# Altium footprint library Diode.PcbLib: 7 footprints
Each footprint in its own frame and in the unit in brackets; x right, y up, seen from the top. Pads: shape width x height; smd on the part's side, far side on the other; paste and mask are expansions set on the pad; w line width, h text height; cw(c..) or ccw(c..) is an arc to the next point about the centre after c.
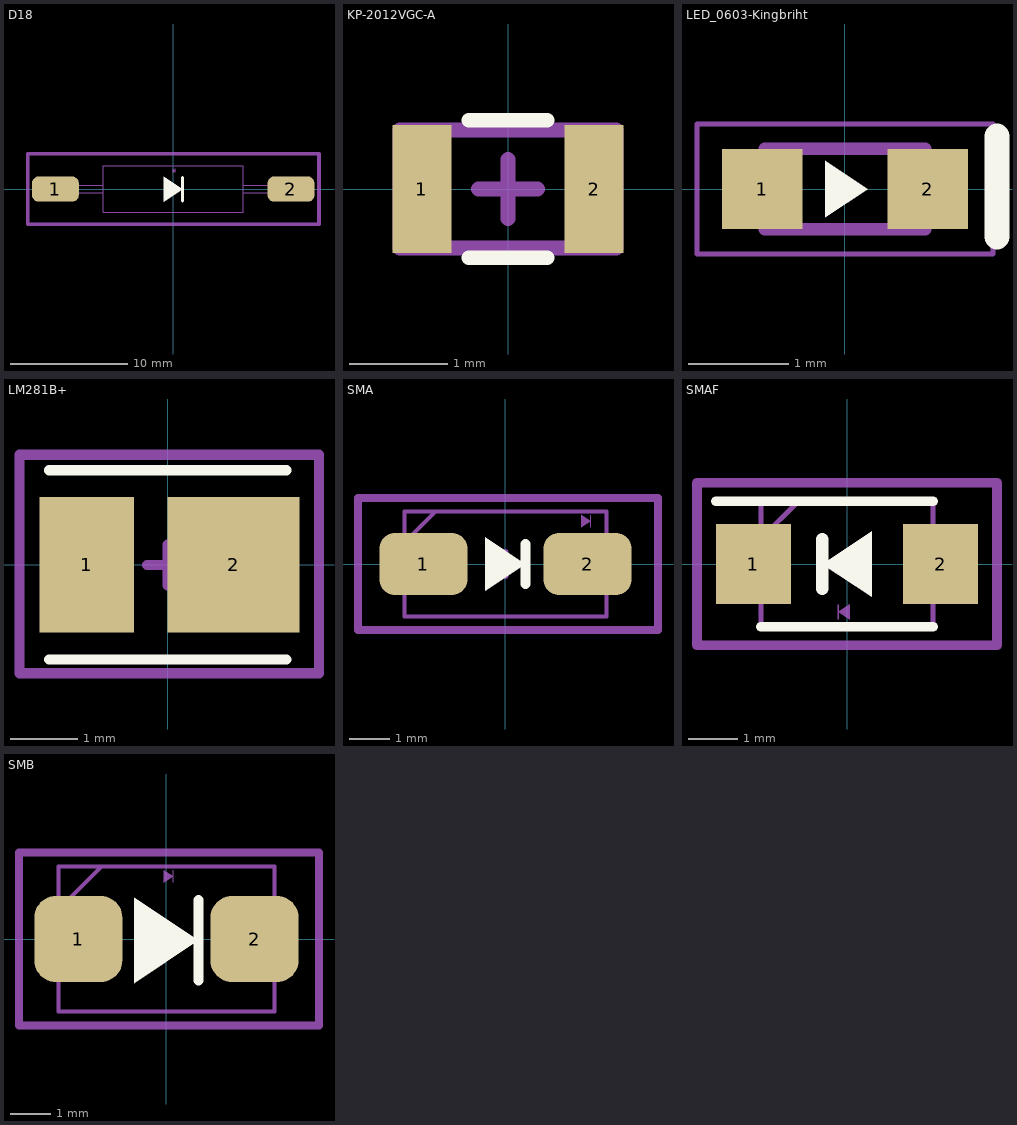
[diagram p0: the footprints below, top view; thin cyan lines are the x and y axes]

## D18 [mm]
pads (2):
  rrect50% 4x2.15 smd: 1(-10.087,-0.007) 2(10.072,-0.007)
Top Overlay:
  region: -0.8,1.033 -0.8,-1.1 0.8,-0.033
  lines w0.254: 0.8,-1.033 0.8,0.967
Top Assembly:
  drawing of 4850 lines, arcs and shapes, not listed
Top Component Outline:
  lines w0.3: -12.446,-3 12.471,-3 12.471,3 -12.446,3 -12.446,-3
3D body "Ä18.stp": height 5.3, standoff 0, extent -10.087,-2.004 10.072,1.99

## KP-2012VGC-A [mm] "D"
pads (2):
  rect 0.6x1.3 smd: 1(-0.875,0) 2(0.875,0)
Top Overlay:
  lines w0.15: -0.4,-0.7 0.4,-0.7 ; -0.4,0.7 0.4,0.7
Top Assembly:
  region: 0.9,0.507 0.9,0.418 0.967,0.462
  lines w0.01: 0.967,0.42 0.967,0.505
Top Component Outline:
  lines w0.15: -0.3,0 0.3,0 ; 0,-0.3 0,0.3 ; -1.1,-0.6 1.1,-0.6 1.1,0.6 -1.1,0.6 -1.1,-0.6
3D body "LEDM2012X110N_EIA-0805_Kingbright_KP-2012_series.STEP": height 1.1, standoff 0, extent -1,-0.625 1,0.625

## LED_0603-Kingbriht [mm]
height 1.1
pads (2):
  rect 0.8x0.8 smd: 1(-0.825,0) 2(0.825,0)
Top Overlay:
  region: -0.195,0.283 -0.195,-0.283 0.229,0
  lines w0.254: 1.516,-0.475 1.516,0.525
Top Assembly:
  region: 0.649,0.317 0.649,0.228 0.715,0.272
  lines w0.01: 0.715,0.23 0.715,0.315
  lines w0.127: -0.8,-0.4 -0.8,0.4 0.8,0.4 0.8,-0.4 -0.8,-0.4
Top Component Outline:
  lines w0.05: -1.475,-0.65 1.475,-0.65 1.475,0.65 -1.475,0.65 -1.475,-0.65
3D body "step_temp.STEP": height 1.1, standoff 0, extent -0.8,-0.4 0.8,0.4

## LM281B+ [mm]
pads (2):
  rect 1.4x2 smd: 1(-1.194,0)
  rect 1.95x2 smd: 2(0.975,0)
Top Overlay:
  lines w0.15: -1.753,-1.397 1.753,-1.397 ; -1.753,1.397 1.753,1.397
Top Component Outline:
  lines w0.15: -0.3,0 0.3,0 ; 0,-0.3 0,0.3 ; -2.184,-1.6 -2.184,1.626 2.235,1.626 2.235,-1.6 -2.184,-1.6
3D body "SPMWH1228FD5WAT0SC.STEP": height 0.7, standoff 0, extent -1.74,-1.4 1.74,1.4

## SMA [mm]
pads (2):
  rrect50% 2.2x1.55 smd: 1(-2.05,0) 2(2.05,0)
Top Overlay:
  region: -0.5,0.667 -0.5,-0.667 0.5,0
  lines w0.254: 0.5,-0.5 0.5,0.5
Top Assembly:
  region: 1.89,1.227 1.89,0.912 2.126,1.07
  lines w0.03: 2.126,0.92 2.126,1.217
  lines w0.1: -2.52,0.538 -1.745,1.312 ; -2.52,-1.312 2.52,-1.312 2.52,1.312 -2.52,1.312 -2.52,-1.312
Top Component Outline:
  lines w0.15: -0.3,0 0.3,0 ; 0,-0.3 0,0.3
  lines w0.2: -3.683,-1.651 3.81,-1.651 3.81,1.651 -3.683,1.651 -3.683,-1.651
3D body "SMA-2.65-DIODE.stp": height 2.67, standoff 0, extent -2.79,-1.312 2.79,1.312

## SMAF [mm]
pads (2):
  rect 1.53x1.63 smd: 1(-1.9,0) 2(1.9,0)
Top Overlay:
  region: 0.5,-0.667 0.5,0.667 -0.5,0
  lines w0.2: -2.665,1.275 1.75,1.275 ; -1.75,-1.275 1.75,-1.275
  lines w0.254: -0.5,-0.5 -0.5,0.5
Top Assembly:
  region: 0.06,-1.132 0.06,-0.817 -0.176,-0.975
  lines w0.03: -0.176,-1.122 -0.176,-0.825
  lines w0.1: -1.75,0.51 -0.985,1.275 ; -1.75,-1.275 -1.75,1.275 1.75,1.275 1.75,-1.275 -1.75,-1.275
Top Component Outline:
  lines w0.2: -3.048,-1.651 -3.048,1.651 3.048,1.651 3.048,-1.651 -3.048,-1.651
3D body "SMAF.stp": height 1.2, standoff 0, extent -2.655,-1.275 2.655,1.275

## SMB [mm]
pads (2):
  rrect50% 2.2x2.15 smd: 1(-2.2,0) 2(2.2,0)
Top Overlay:
  region: -0.8,1.033 -0.8,-1.1 0.8,-0.033
  lines w0.254: 0.8,-1.033 0.8,0.967
Top Assembly:
  region: -0.064,1.723 -0.064,1.408 0.172,1.565
  lines w0.03: 0.172,1.415 0.172,1.712
  lines w0.1: -2.7,0.735 -1.625,1.81 ; -2.7,-1.81 2.7,-1.81 2.7,1.81 -2.7,1.81 -2.7,-1.81
Top Component Outline:
  lines w0.2: -3.683,-2.159 3.81,-2.159 3.81,2.159 -3.683,2.159 -3.683,-2.159
3D body "DO-214AA.stp": height 2.62, standoff 0, extent -3.028,-1.319 3.012,1.306